# Altium schematic symbol library inductor_common.SchLib: 1 symbol
Pins are listed as number, name and electrical type; pins without a type are passive.

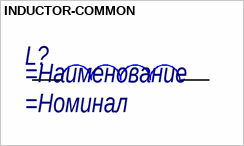
[diagram p0: symbol INDUCTOR-COMMON]

## INDUCTOR-COMMON
designator L?
=Описание; Индуктивность: =Номинал
pins: 1, 2